# Altium schematic symbol library interfaces_can.SchLib: 6 symbols
Pins are listed as number, name and electrical type; pins without a type are passive.

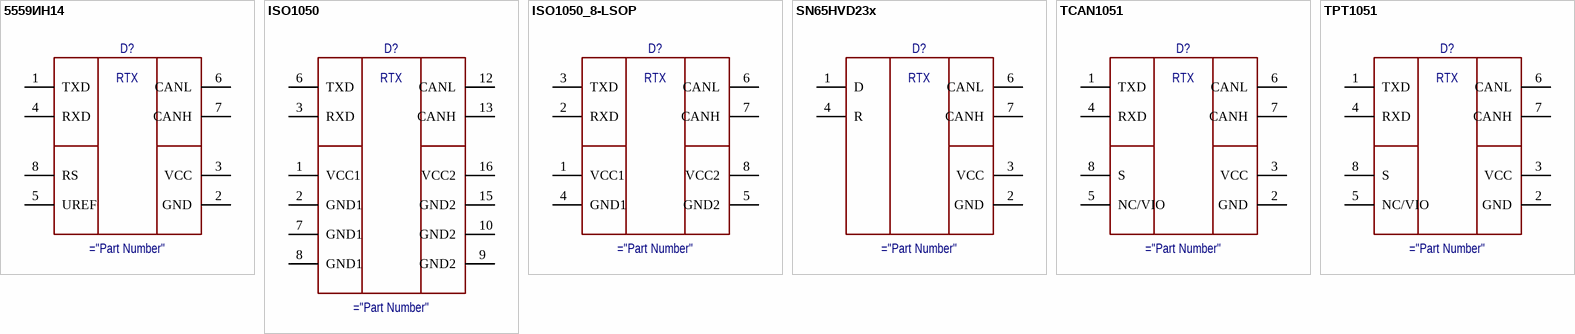
[diagram p0: symbols 5559ИН14 to TPT1051]

## 5559ИН14
designator D?
CAN
pins: 1 TXD, 2 GND, 3 VCC, 4 RXD, 5 UREF, 6 CANL, 7 CANH, 8 RS
text: RTX

## ISO1050
designator D?
IsoCAN
pins: 1 VCC1, 2 GND1, 3 RXD, 4 NC hidden, 5 NC hidden, 6 TXD, 7 GND1, 8 GND1, 9 GND2, 10 GND2, 11 NC hidden, 12 CANL, 13 CANH, 14 NC hidden, 15 GND2, 16 VCC2
text: RTX

## ISO1050_8-LSOP
designator D?
IsoCAN
pins: 1 VCC1, 2 RXD, 3 TXD, 4 NC hidden, 4 GND1, 5 NC hidden, 5 GND2, 6 CANL, 7 CANH, 8 VCC2, 11 NC hidden, 14 NC hidden
text: RTX

## SN65HVD23x
designator D?
CAN
pins: 1 D, 2 GND, 3 VCC, 4 R, 5 NC hidden, 6 CANL, 7 CANH, 8 NC hidden
text: RTX

## TCAN1051
designator D?
CAN with CAN FD
pins: 1 TXD, 2 GND, 3 VCC, 4 RXD, 5 NC/VIO, 6 CANL, 7 CANH, 8 S
text: RTX

## TPT1051
designator D?
CAN with CAN FD
pins: 1 TXD, 2 GND, 3 VCC, 4 RXD, 5 NC/VIO, 6 CANL, 7 CANH, 8 S
text: RTX